# Altium footprint library LED.PcbLib: 13 footprints
Each footprint in its own frame and in the unit in brackets; x right, y up, seen from the top. Pads: shape width x height; smd on the part's side, far side on the other; paste and mask are expansions set on the pad; w line width, h text height; cw(c..) or ccw(c..) is an arc to the next point about the centre after c.
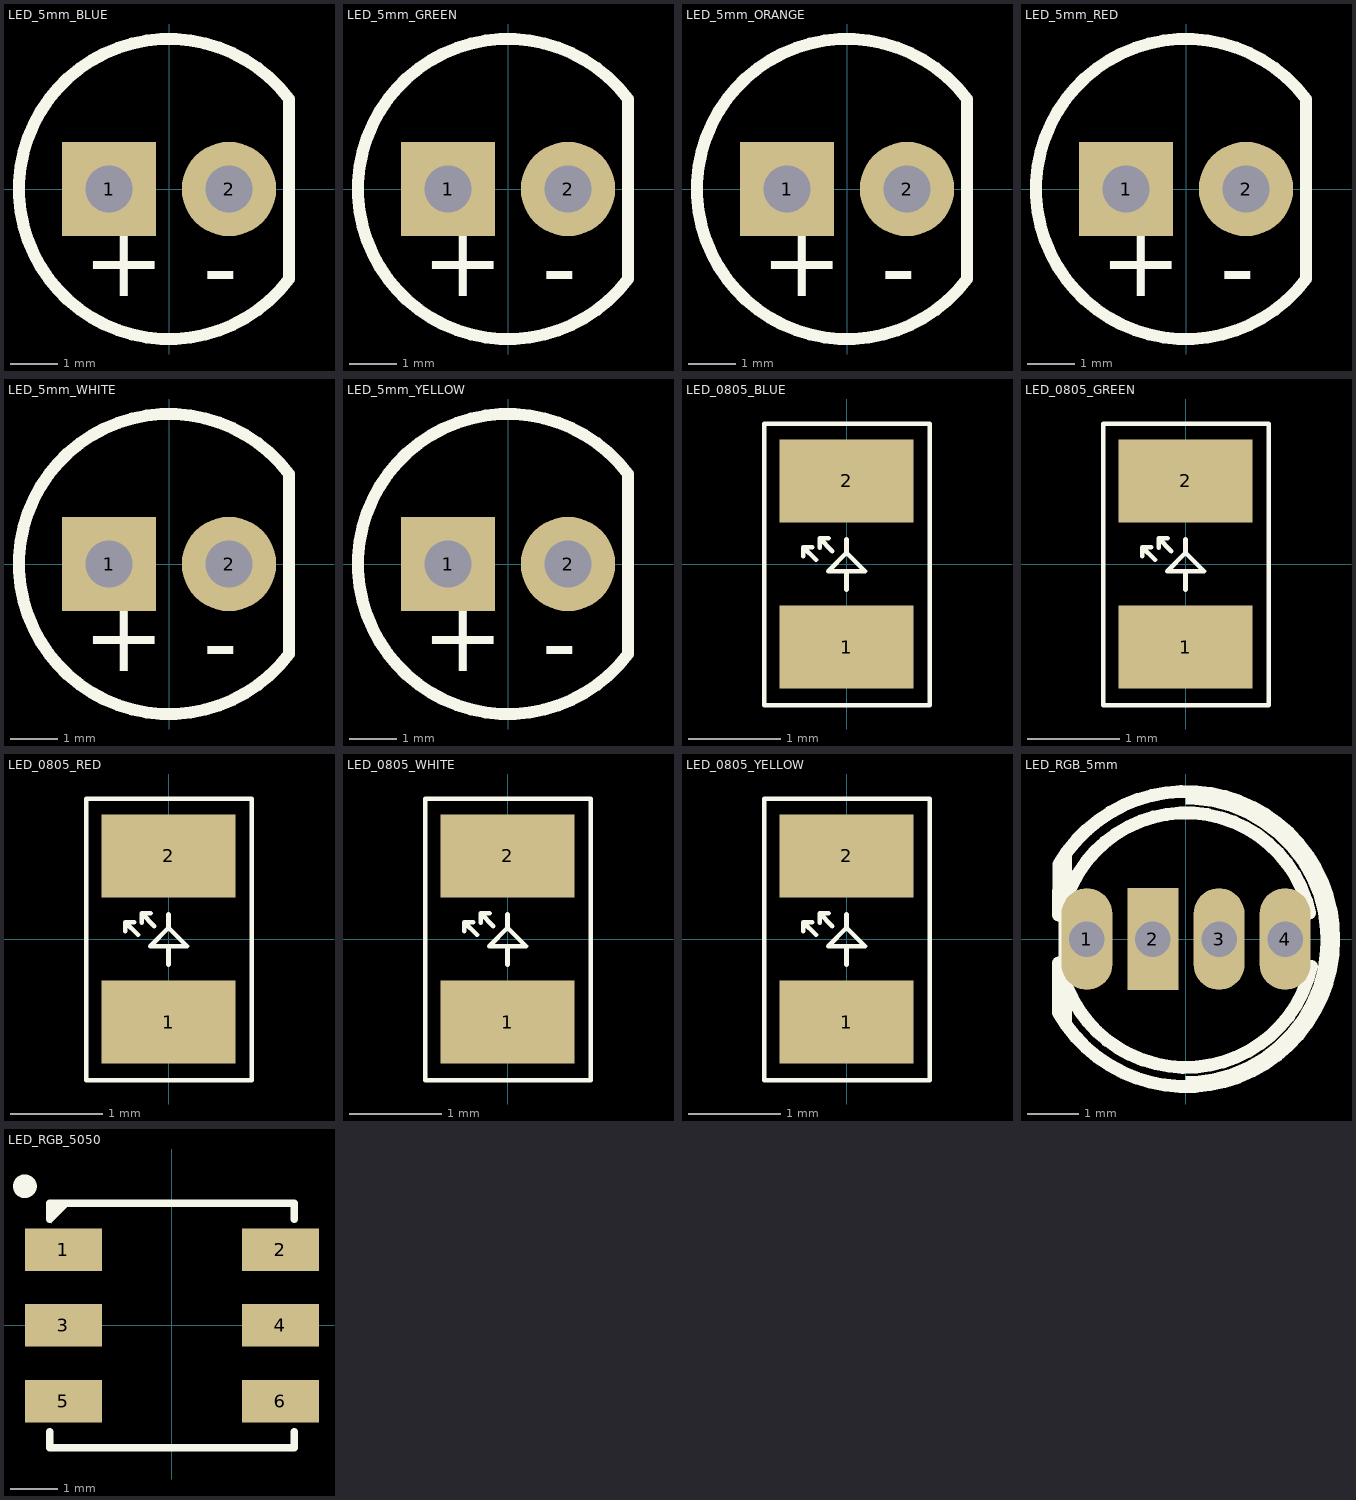
[diagram p0: the footprints below, top view; thin cyan lines are the x and y axes]

## LED_5mm_BLUE [mm]
pads (2):
  rect 2x2 hole 1: 1(-1.27,0)
  round 2 hole 1: 2(1.27,0)
Top Overlay:
  lines w0.254: 2.54,-1.905 cw(c0,0) 2.54,1.905 2.54,-1.905
  text "-" at 0.713,-2.393 h1.52
  text "+" at -1.827,-2.266 h1.52
3D body "LED_5MM_BLUE.step": height 8.65, standoff -7.32, extent -2.97,-2.832 2.48,3.068

## LED_5mm_GREEN [mm]
pads (2):
  rect 2x2 hole 1: 1(-1.27,0)
  round 2 hole 1: 2(1.27,0)
Top Overlay:
  lines w0.254: 2.54,-1.905 cw(c0,0) 2.54,1.905 2.54,-1.905
  text "-" at 0.713,-2.393 h1.52
  text "+" at -1.827,-2.266 h1.52
3D body "LED_5MM_GREEN.step": height 8.65, standoff -7.32, extent -2.97,-2.832 2.48,3.068

## LED_5mm_ORANGE [mm]
pads (2):
  rect 2x2 hole 1: 1(-1.27,0)
  round 2 hole 1: 2(1.27,0)
Top Overlay:
  lines w0.254: 2.54,-1.905 cw(c0,0) 2.54,1.905 2.54,-1.905
  text "-" at 0.713,-2.393 h1.52
  text "+" at -1.827,-2.266 h1.52
3D body "LED_5mm.STEP": height 9.1, standoff -17.8, extent -2.919,-2.901 2.618,2.999

## LED_5mm_RED [mm]
pads (2):
  rect 2x2 hole 1: 1(-1.27,0)
  round 2 hole 1: 2(1.27,0)
Top Overlay:
  lines w0.254: 2.54,-1.905 cw(c0,0) 2.54,1.905 2.54,-1.905
  text "-" at 0.713,-2.393 h1.52
  text "+" at -1.827,-2.266 h1.52
3D body "LED_5mm_RED.step": height 8.72, standoff -2.98, extent -2.937,-2.898 2.451,2.898

## LED_5mm_WHITE [mm]
pads (2):
  rect 2x2 hole 1: 1(-1.27,0)
  round 2 hole 1: 2(1.27,0)
Top Overlay:
  lines w0.254: 2.54,-1.905 cw(c0,0) 2.54,1.905 2.54,-1.905
  text "-" at 0.713,-2.393 h1.52
  text "+" at -1.827,-2.266 h1.52
3D body "LED_5mm_TRANSPAREN.stp": height 8.6, standoff -28.5, extent -3.049,-2.998 2.451,2.998

## LED_5mm_YELLOW [mm]
pads (2):
  rect 2x2 hole 1: 1(-1.27,0)
  round 2 hole 1: 2(1.27,0)
Top Overlay:
  lines w0.254: 2.54,-1.905 cw(c0,0) 2.54,1.905 2.54,-1.905
  text "+" at -1.827,-2.266 h1.52
  text "-" at 0.713,-2.393 h1.52
3D body "LED_5MM_YELLOW.step": height 8.65, standoff -7.32, extent -2.97,-2.959 2.48,2.941

## LED_0805_BLUE [mm]
pads (2):
  rect 1.45x0.9 smd: 1(0,-0.9) 2(0,0.9)
Top Overlay:
  lines w0.05: -0.468,0.083 -0.468,0.183 ; -0.372,0.183 -0.468,0.183 ; -0.331,0.046 -0.468,0.183 ; -0.292,0.177 -0.292,0.277 ; -0.196,0.277 -0.292,0.277 ; -0.155,0.14 -0.292,0.277 ; 0,-0.28 0,-0.08 ; 0,0.27 0,0.12 ; 0,-0.08 0.2,-0.08 0,0.12 ; 0,-0.08 -0.2,-0.08 0,0.12 ; -0.89,-1.53 -0.89,1.52 0.9,1.52 0.9,-1.53 -0.89,-1.53
3D body "LED_0805_BLUE.step": height 1.1, standoff -0.01, extent -0.622,-1.021 0.628,0.979

## LED_0805_GREEN [mm]
pads (2):
  rect 1.45x0.9 smd: 1(0,-0.9) 2(0,0.9)
Top Overlay:
  lines w0.05: -0.468,0.083 -0.468,0.183 ; -0.372,0.183 -0.468,0.183 ; -0.331,0.046 -0.468,0.183 ; -0.292,0.177 -0.292,0.277 ; -0.196,0.277 -0.292,0.277 ; -0.155,0.14 -0.292,0.277 ; 0,-0.28 0,-0.08 ; 0,0.27 0,0.12 ; 0,-0.08 -0.2,-0.08 0,0.12 ; 0,-0.08 0.2,-0.08 0,0.12 ; -0.89,-1.53 0.9,-1.53 0.9,1.52 -0.89,1.52 -0.89,-1.53
3D body "LED_0805_GREEN.step": height 1.1, standoff -0.01, extent -0.622,-0.996 0.628,1.004

## LED_0805_RED [mm]
pads (2):
  rect 1.45x0.9 smd: 1(0,-0.9) 2(0,0.9)
Top Overlay:
  lines w0.05: -0.468,0.083 -0.468,0.183 ; -0.372,0.183 -0.468,0.183 ; -0.331,0.046 -0.468,0.183 ; -0.292,0.177 -0.292,0.277 ; -0.196,0.277 -0.292,0.277 ; -0.155,0.14 -0.292,0.277 ; 0,-0.28 0,-0.08 ; 0,0.27 0,0.12 ; 0,-0.08 -0.2,-0.08 0,0.12 ; 0,-0.08 0.2,-0.08 0,0.12 ; -0.89,-1.53 0.9,-1.53 0.9,1.52 -0.89,1.52 -0.89,-1.53
3D body "LED_0805_RED.step": height 1.1, standoff -0.01, extent -0.622,-1.021 0.628,0.979

## LED_0805_WHITE [mm]
pads (2):
  rect 1.45x0.9 smd: 1(0,-0.9) 2(0,0.9)
Top Overlay:
  lines w0.05: -0.468,0.083 -0.468,0.183 ; -0.372,0.183 -0.468,0.183 ; -0.331,0.046 -0.468,0.183 ; -0.292,0.177 -0.292,0.277 ; -0.196,0.277 -0.292,0.277 ; -0.155,0.14 -0.292,0.277 ; 0,-0.28 0,-0.08 ; 0,0.27 0,0.12 ; 0,-0.08 0.2,-0.08 0,0.12 ; 0,-0.08 -0.2,-0.08 0,0.12 ; -0.89,-1.53 0.9,-1.53 0.9,1.52 -0.89,1.52 -0.89,-1.53
3D body "LED_0805_WHITE.step": height 1.1, standoff 0, extent -0.622,-1.006 0.628,1.014

## LED_0805_YELLOW [mm]
pads (2):
  rect 1.45x0.9 smd: 1(0,-0.9) 2(0,0.9)
Top Overlay:
  lines w0.05: -0.468,0.083 -0.468,0.183 ; -0.372,0.183 -0.468,0.183 ; -0.331,0.046 -0.468,0.183 ; -0.292,0.177 -0.292,0.277 ; -0.196,0.277 -0.292,0.277 ; -0.155,0.14 -0.292,0.277 ; 0,-0.28 0,-0.08 ; 0,0.27 0,0.12 ; 0,-0.08 -0.2,-0.08 0,0.12 ; 0,-0.08 0.2,-0.08 0,0.12 ; -0.89,-1.53 0.9,-1.53 0.9,1.52 -0.89,1.52 -0.89,-1.53
3D body "LED_0805_YELLOW.step": height 1.1, standoff -0.01, extent -0.635,-1.056 0.615,0.944

## LED_RGB_5mm [mm]
pads (4):
  oval 1x2 hole 0.7: 1(-1.95,0) 3(0.65,0) 4(1.95,0)
  rect 1x2 hole 0.7: 2(-0.65,0)
Top Overlay:
  region: 0,-2.9 0.05,-2.9 0.24,-2.9 0.617,-2.85 0.984,-2.752 1.335,-2.607 1.665,-2.416 1.966,-2.185 2.235,-1.916 2.466,-1.615 2.656,-1.285 2.802,-0.934 2.9,-0.567 2.95,-0.19 2.95,0 2.95,0.19 2.9,0.567 2.802,0.934 2.656,1.285 2.466,1.615 2.235,1.916 1.966,2.185 1.665,2.416 1.335,2.607 0.984,2.752 0.617,2.85 0.24,2.9 0.05,2.9 0,2.9 0,2.65 0.173,2.644 0.517,2.599 0.852,2.509 1.172,2.377 1.472,2.203 1.747,1.992 1.992,1.747 2.203,1.472 2.377,1.172 2.509,0.852 2.599,0.517 2.644,0.173 2.65,0 2.65,-0.05 2.644,-0.223 2.599,-0.567 2.509,-0.902 2.377,-1.222 2.203,-1.522 1.992,-1.797 1.747,-2.042 1.472,-2.253 1.172,-2.427 0.852,-2.559 0.517,-2.649 0.173,-2.694 0,-2.7
  region: -2.5,-1.45 -2.5,1.45 -2.25,1.8 -2.25,-1.85
  lines w0.254: -2.507,-0.472 -2.511,-1.449 ccw(c0.003,0.001) -2.5,1.471 -2.504,0.476 ; -2.43,-0.68 ccw(c0,0) 2.464,-0.543 ; -2.347,0.811 cw(c0,0) 2.43,0.51
3D body "LED_RGB_5mm.stp": height 8.95, standoff -4.65, extent -2.471,-2.961 2.974,2.937

## LED_RGB_5050 [mm]
pads (6):
  rect 1.625x0.896 smd: 1(-2.287,1.6) 2(2.287,1.6) 3(-2.287,0) 4(2.287,0) 5(-2.287,-1.6) 6(2.287,-1.6)
Top Overlay:
  circle w0.25: c-3.1,2.936 r0.125
  region: -2.286,2.576 -2.576,2.576 -2.576,2.239 -2.497,2.239 -2.159,2.576
  region: -2.54,2.159 -2.54,2.202 -2.576,2.239
  lines w0.152: -2.576,-2.239 -2.576,-2.576 2.576,-2.576 2.576,-2.239 ; -2.576,2.238 -2.238,2.576 ; -2.576,2.239 -2.576,2.576 2.576,2.576 2.576,2.239
3D body "LED_5050_RGB.stp": height 1.62, standoff 0, extent -2.707,-2.504 2.693,2.496